# Altium integrated library FH63S-20S-0.5SH.IntLib: 1 symbol
Pins are listed as number, name and electrical type; pins without a type are passive.

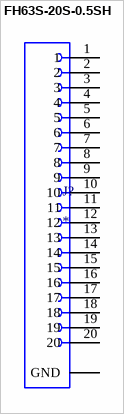
[diagram p0: symbol FH63S-20S-0.5SH]

## FH63S-20S-0.5SH
designator J?
MP: FH63S-20S-0.5SH; Price: None; Package: None; Value: *; Availability: Unavailable
footprint HRS_FH63S-20S-0.5SH
pins: 1, 2, 3, 4, 5, 6, 7, 8, 9, 10, 11, 12, 13, 14, 15, 16, 17, 18, 19, 20, G1 GND (power), G2 GND (power), G3 GND (power), G4 GND (power), G5 GND (power), G6 GND (power)